# EAGLE library part MAX7310 (library Components Library)
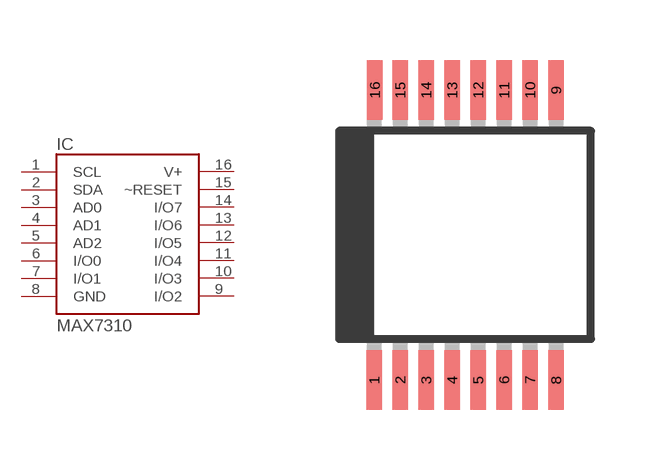
[diagram p2: symbol with the pads of SSOP16; footprint SSOP16]

Designator prefix IC

## MAX7310AUE+  [SSOP16]
1  SCL  oc
2  SDA  oc
3  AD0  in
4  AD1  in
5  AD2  in
6  I/O0
7  I/O1
8  GND  pwr
9  I/O2
10  I/O3
11  I/O4
12  I/O5
13  I/O6
14  I/O7
15  ~RESET  in
16  V+  pwr

## Footprint SSOP16 (pad centres in mm)
smd 0.381 x 1.499: 1 -2.275,-3.625; 2 -1.625,-3.625; 3 -0.975,-3.625; 4 -0.325,-3.625; 5 0.325,-3.625; 6 0.975,-3.625; 7 1.625,-3.625; 8 2.275,-3.625; 9 2.275,3.625; 10 1.625,3.625; 11 0.975,3.625; 12 0.325,3.625; 13 -0.325,3.625; 14 -0.975,3.625; 15 -1.625,3.625; 16 -2.261,3.625